# EAGLE library part XFLEX (library wheat)
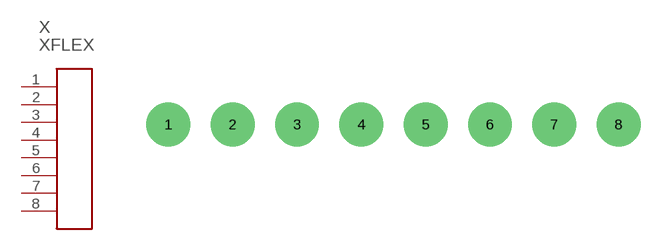
[diagram p237: symbol with the pads of XFLEX; footprint XFLEX]

Designator prefix X

## XFLEX  [XFLEX]
1  P$1  pas
2  P$2  pas
3  P$3  pas
4  P$4  pas
5  P$5  pas
6  P$6  pas
7  P$7  pas
8  P$8  pas

## Footprint XFLEX (pad centres in mm)
drill 3.2 pad 5.08: 1 0,0; 2 7.442,0; 3 14.884,0; 4 22.327,0; 5 29.769,0; 6 37.211,0; 7 44.653,0; 8 52.095,0